# Altium footprint library ADLibrary_Footprints.PcbLib: 35 footprints (part 3 of 3)
Each footprint in its own frame and in the unit in brackets; x right, y up, seen from the top. Pads: shape width x height; smd on the part's side, far side on the other; paste and mask are expansions set on the pad; w line width, h text height; cw(c..) or ccw(c..) is an arc to the next point about the centre after c.
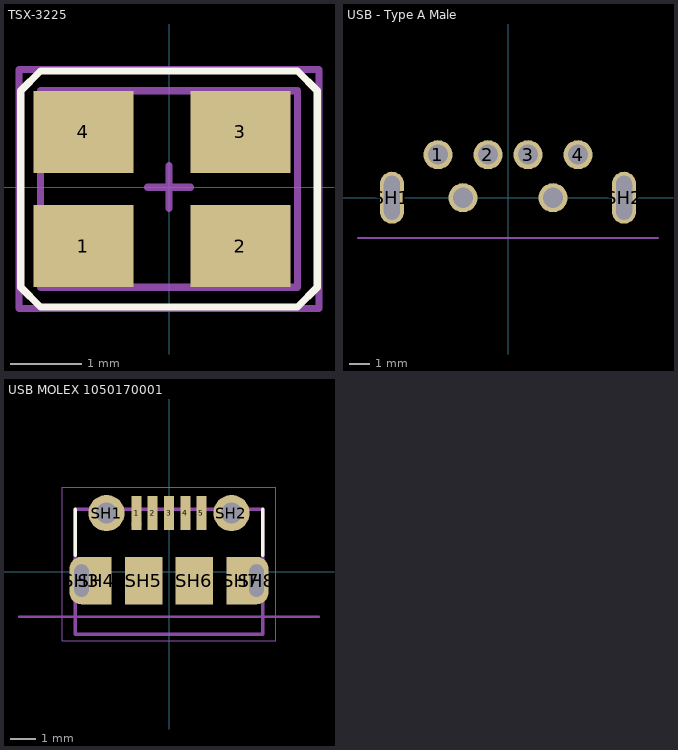
[diagram p2: the footprints below, top view; thin cyan lines are the x and y axes]

## TSX-3225 [mm] "Crystal"
pads (4):
  rect 1.4x1.15 smd: 1(-1.2,-0.825) 2(1,-0.825) 3(1,0.775) 4(-1.2,0.775)
Top Overlay:
  lines w0.1: -2.075,-1.4 -1.8,-1.675 1.8,-1.675 2.075,-1.4 2.075,1.35 1.8,1.625 -1.8,1.625 -2.075,1.35 -2.075,-1.4
Mechanical 1:
  lines w0.1: -1.8,-1.4 -1.8,1.35 1.8,1.35 1.8,-1.4 -1.8,-1.4
Mechanical 15:
  lines w0.1: -0.3,0 0.3,0 ; 0,-0.3 0,0.3 ; -2.1,-1.7 2.1,-1.7 2.1,1.65 -2.1,1.65 -2.1,-1.7
3D body "TSX-3225.step": height 0.6, standoff 0, extent -1.6,-1.275 1.6,1.225

## USB - Type A Male [mm]
pads (8):
  round 1.45 hole 1: 1(-3.5,2.15) 2(-1,2.15) 3(1,2.15) 4(3.5,2.15) ""(-2.25,0) ""(2.25,0)
  oval 1.2x2.6 hole 0.8 slot 2.2 at 90 deg: SH1(-5.8,0) SH2(5.8,0)
Mechanical 13:
  lines w0.1: -7.5,-2 7.5,-2
  text "PCB EDGE" at 6.5,-1.8 h0.41
3D body "USB Type A Male.STEP": height 4.23, standoff -1.97, extent -6.31,-17.882 6.29,2.318

## USB MOLEX 1050170001 [mm]
pads (13):
  rect 0.4x1.35 smd: 1(-1.3,2.35) 2(-0.65,2.35) 3(0,2.35) 4(0.65,2.35) 5(1.3,2.35)
  round 1.45 hole 0.85: SH1(-2.5,2.35) SH2(2.5,2.35)
  oval 0.95x1.9 hole 0.6 slot 1.3 at 90 deg: SH3(-3.5,-0.35) SH8(3.5,-0.35)
  rect 1.2x1.9 smd: SH4(-2.9,-0.35) SH7(2.9,-0.35)
  rect 1.5x1.9 smd: SH5(-1,-0.35) SH6(1,-0.35)
Top Overlay:
  lines w0.127: -3.75,0.65 -3.75,2.5 ; 3.75,0.65 3.75,2.5
Mechanical 13:
  circle w0.2: c-1.3,1.9 r0.1
  lines w0.1: -6,-1.8 -3.75,-1.8 3.75,-1.8 6,-1.8
  lines w0.127: -3.75,-2.5 3.75,-2.5 3.75,-1.8 3.75,2.5 -3.75,2.5 -3.75,-1.8 -3.75,-2.45
  text "PCB EDGE" at 4.8,-1.7 h0.41
Mechanical 15:
  lines w0.05: -4.275,-2.75 4.275,-2.75 4.275,3.375 -4.275,3.375 -4.275,-2.75
3D body "105017-0001.stp": height 2.66, standoff -0.64, extent -4.1,-2.75 4.1,2.65